# Altium footprint library px4_PCBLIB.PcbLib: 12 footprints
Each footprint in its own frame and in the unit in brackets; x right, y up, seen from the top. Pads: shape width x height; smd on the part's side, far side on the other; paste and mask are expansions set on the pad; w line width, h text height; cw(c..) or ccw(c..) is an arc to the next point about the centre after c.
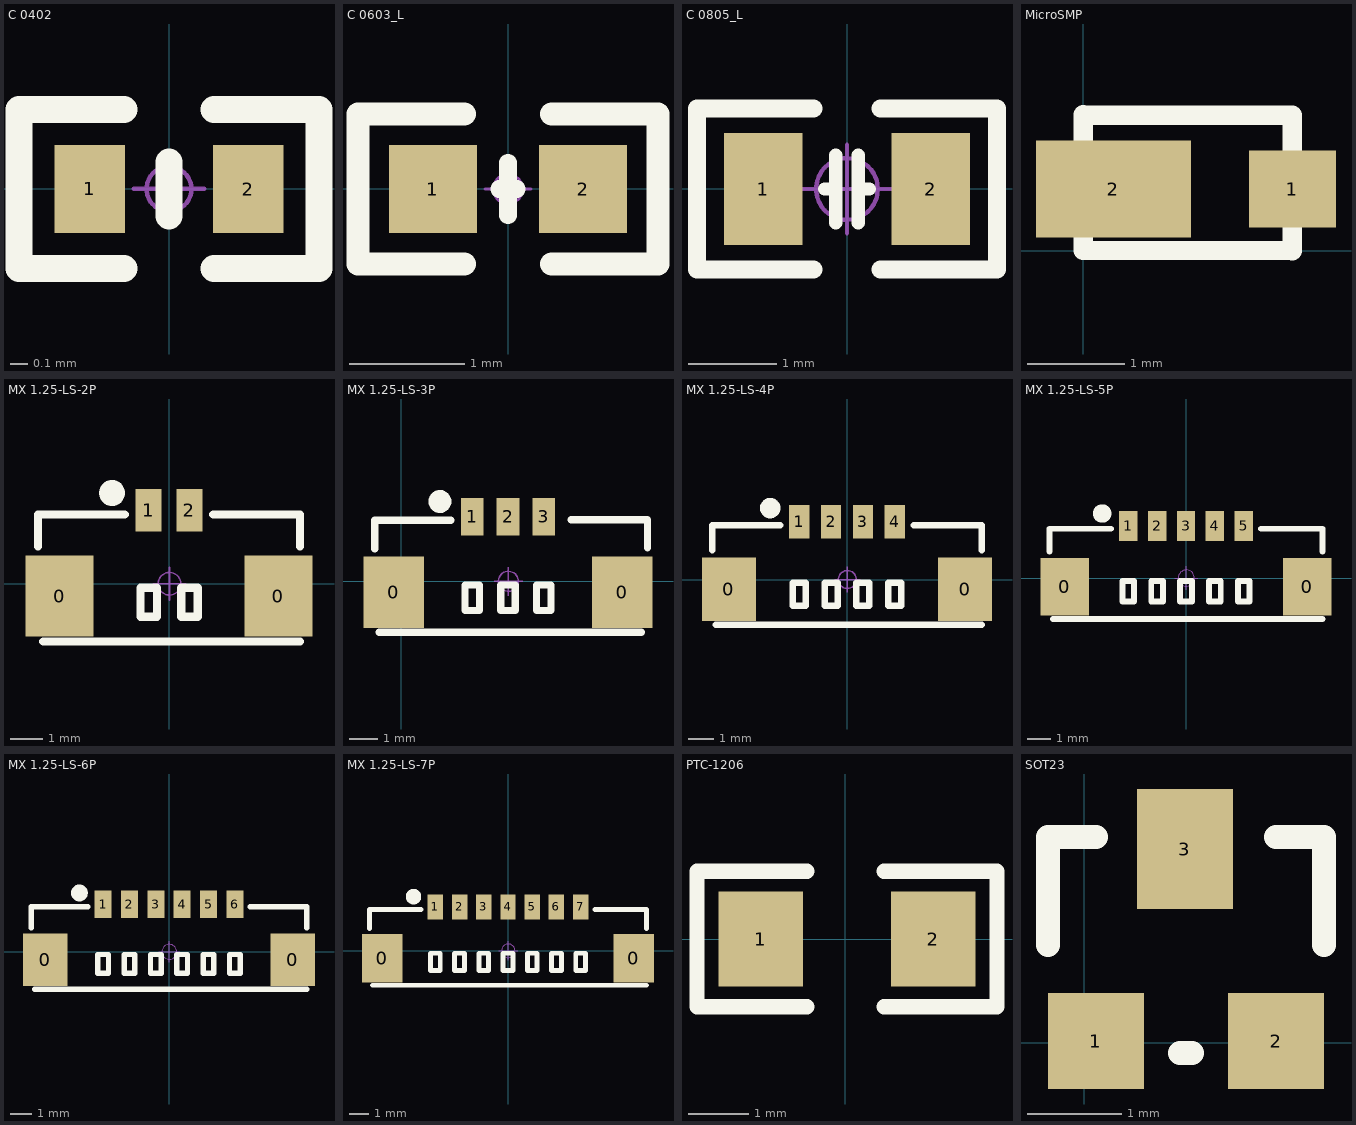
[diagram p0: the footprints below, top view; thin cyan lines are the x and y axes]

## C 0402 [mm] "无极性贴片电容"
height 0.5
pads (2):
  rect 0.4x0.5 smd: 1(-0.45,0) 2(0.45,0)
Top Overlay:
  lines w0.152: -0.254,-0.45 -0.85,-0.45 ; -0.254,0.45 -0.85,0.45 -0.85,-0.45 ; 0,-0.152 0,0.152 ; 0.254,-0.45 0.85,-0.45 0.85,0.45 0.254,0.45 ; -0.85,-0.45 -0.85,-0.45
Mechanical 15:
  circle w0.025: c0,0 r0.127
  lines w0.025: -0.2,0 0.2,0 ; 0,-0.2 0,0.2
3D body "C 0402.STEP": height 0.53, standoff 0.01, extent -0.5,-0.26 0.5,0.26

## C 0603_L [mil] "无极性贴片电容"
height 19.68
pads (2):
  rect 30x30 smd: 1(-25.59,0) 2(25.59,0)
Top Overlay:
  lines w6: -3,0 0,0 3,0 ; 0,-9 0,9
  lines w8: -15,-25.59 -51.18,-25.59 -51.18,25.59 -15,25.59 ; 15,-25.59 51.18,-25.59 51.18,25.59 15,25.59
Mechanical 15:
  circle w1: c0,0 r5
  lines w1: -7.87,0 7.87,0 ; 0,-7.87 0,7.87
3D body "C 0603.STEP": height 31.89, standoff -0.39, extent -31.5,-16.14 31.5,16.14

## C 0805_L [mil] "无极性贴片电容"
height 19.68
pads (2):
  rect 35x50 smd: 1(-37.4,0) 2(37.4,0)
Top Overlay:
  lines w6: -10,0 -5,0 ; -5,-15 -5,15 ; 5,-15 5,15 ; 5,0 10,0
  lines w8: -15,-36 -66.93,-36 -66.93,36 -15,36 ; 15,-36 66.93,-36 66.93,36 15,36
Mechanical 15:
  circle w1.97: c0,0 r13.78
  circle w1.97: c0,0 r13.78
  lines w1.97: -19.68,0 19.68,0 -19.68,0 ; 0,-19.68 0,19.68 0,-19.68
3D body "C 0805.STEP": height 20.08, standoff -0.39, extent -39.37,-24.02 39.37,24.02

## MicroSMP [mm]
height 0.73
pads (2):
  rect 0.9x0.8 smd: 1(2.159,0.635)
  rect 1.6x1 smd: 2(0.312,0.635)
Top Overlay:
  lines w0.2: 0,1.4 0,0 2.1,0 ; 0.059,1.397 2.159,1.397 2.159,-0.003
3D body "MicroSMP-1.STEP": height 0.71, standoff 0.03, extent -0.181,0.009 2.319,1.309

## MX 1.25-LS-2P [mm] "长：7.25m，宽：3.7mm，高：4.7mm"
pads (4):
  rect 2.1x2.5 smd: 0(-3.382,-0.381) 0(3.354,-0.381)
  rect 0.8x1.3 smd: 1(-0.639,2.261) 2(0.611,2.261)
Top Overlay:
  circle w0.4: c-1.767,2.794 r0.2
  lines w0.254: -4.045,1.143 -4.045,2.134 -1.378,2.134 ; -3.887,-1.778 4.02,-1.778 ; 1.35,2.134 4.017,2.134 4.017,1.143 ; -0.89,-1.016 -0.89,-0.127 -0.382,-0.127 -0.382,-1.016 -0.89,-1.016 ; 0.36,-1.016 0.868,-1.016 0.868,-0.127 0.36,-0.127 0.36,-1.016
Mechanical 15:
  circle w0.05: c0,0 r0.35
  lines w0.05: -0.5,0 0.5,0 ; 0,-0.5 0,0.5
3D body "MOLEX1.25-LS-2P.STEP": height 4.7, standoff 0, extent -3.825,-1.6 3.825,2.5

## MX 1.25-LS-3P [mm] "长：8.5m，宽：3.7mm，高：4.7mm"
pads (5):
  rect 2.1x2.5 smd: 0(-0.254,-0.381) 0(7.732,-0.381)
  rect 0.8x1.3 smd: 1(2.489,2.261) 2(3.739,2.261) 3(4.989,2.261)
Top Overlay:
  circle w0.4: c1.361,2.794 r0.2
  lines w0.254: -0.917,1.143 -0.917,2.134 1.75,2.134 ; -0.762,-1.778 8.395,-1.778 ; 5.946,2.159 8.613,2.159 8.613,1.168 ; 2.235,-1.016 2.743,-1.016 2.743,-0.127 2.235,-0.127 2.235,-1.016 ; 3.485,-1.016 3.485,-0.127 3.993,-0.127 3.993,-1.016 3.485,-1.016 ; 4.735,-1.016 4.735,-0.127 5.243,-0.127 5.243,-1.016 4.735,-1.016
Mechanical 15:
  circle w0.05: c3.753,0 r0.35
  lines w0.05: 3.253,0 4.253,0 ; 3.753,-0.5 3.753,0.5
3D body "MOLEX1.25-LS-3P.STEP": height 4.7, standoff 0, extent -0.697,-1.6 8.203,2.5

## MX 1.25-LS-4P [mm] "长：9.75m，宽：3.7mm，高：4.7mm"
pads (6):
  rect 2.1x2.5 smd: 0(-4.632,-0.381) 0(4.604,-0.381)
  rect 0.8x1.3 smd: 1(-1.889,2.261) 2(-0.639,2.261) 3(0.611,2.261) 4(1.861,2.261)
Top Overlay:
  circle w0.4: c-3.017,2.794 r0.2
  lines w0.254: -5.295,1.143 -5.295,2.134 -2.628,2.134 ; -5.14,-1.778 5.267,-1.778 ; 2.6,2.134 5.267,2.134 5.267,1.143 ; -2.143,-1.016 -2.143,-0.127 -1.635,-0.127 -1.635,-1.016 -2.143,-1.016 ; -0.893,-1.016 -0.385,-1.016 -0.385,-0.127 -0.893,-0.127 -0.893,-1.016 ; 0.357,-1.016 0.865,-1.016 0.865,-0.127 0.357,-0.127 0.357,-1.016 ; 1.607,-1.016 2.115,-1.016 2.115,-0.127 1.607,-0.127 1.607,-1.016
Mechanical 15:
  circle w0.05: c0,0 r0.35
  lines w0.05: -0.5,0 0.5,0 ; 0,-0.5 0,0.5
3D body "MOLEX1.25-LS-4P.STEP": height 4.7, standoff 0, extent -5.075,-1.6 5.075,2.5

## MX 1.25-LS-5P [mm] "长：11m，宽：3.7mm，高：4.7mm"
pads (7):
  rect 2.1x2.5 smd: 0(-5.257,-0.381) 0(5.229,-0.381)
  rect 0.8x1.3 smd: 1(-2.514,2.261) 2(-1.264,2.261) 3(-0.014,2.261) 4(1.236,2.261) 5(2.486,2.261)
Top Overlay:
  circle w0.4: c-3.642,2.794 r0.2
  lines w0.254: -5.92,1.143 -5.92,2.134 -3.253,2.134 ; -5.765,-1.778 5.892,-1.778 ; 3.225,2.134 5.892,2.134 5.892,1.143 ; -2.768,-1.016 -2.768,-0.127 -2.26,-0.127 -2.26,-1.016 -2.768,-1.016 ; -1.518,-1.016 -1.01,-1.016 -1.01,-0.127 -1.518,-0.127 -1.518,-1.016 ; -0.268,-1.016 0.24,-1.016 0.24,-0.127 -0.268,-0.127 -0.268,-1.016 ; 0.982,-1.016 1.49,-1.016 1.49,-0.127 0.982,-0.127 0.982,-1.016 ; 2.232,-1.016 2.74,-1.016 2.74,-0.127 2.232,-0.127 2.232,-1.016
Mechanical 15:
  circle w0.05: c0,0 r0.35
  lines w0.05: -0.5,0 0.5,0 ; 0,-0.5 0,0.5
3D body "MOLEX1.25-LS-5P.STEP": height 4.7, standoff 0, extent -5.7,-1.6 5.7,2.5

## MX 1.25-LS-6P [mm] "长：12.25m，宽：3.7mm，高：4.7mm"
pads (8):
  rect 2.1x2.5 smd: 0(-5.882,-0.381) 0(5.854,-0.381)
  rect 0.8x1.3 smd: 1(-3.139,2.261) 2(-1.889,2.261) 3(-0.639,2.261) 4(0.611,2.261) 5(1.861,2.261) 6(3.111,2.261)
Top Overlay:
  circle w0.4: c-4.267,2.794 r0.2
  lines w0.254: -6.545,1.143 -6.545,2.134 -3.878,2.134 ; -6.39,-1.778 6.517,-1.778 ; 3.85,2.134 6.517,2.134 6.517,1.143 ; -3.393,-1.016 -3.393,-0.127 -2.885,-0.127 -2.885,-1.016 -3.393,-1.016 ; -2.143,-1.016 -1.635,-1.016 -1.635,-0.127 -2.143,-0.127 -2.143,-1.016 ; -0.893,-1.016 -0.385,-1.016 -0.385,-0.127 -0.893,-0.127 -0.893,-1.016 ; 0.357,-1.016 0.865,-1.016 0.865,-0.127 0.357,-0.127 0.357,-1.016 ; 1.607,-1.016 2.115,-1.016 2.115,-0.127 1.607,-0.127 1.607,-1.016 ; 2.857,-1.016 3.365,-1.016 3.365,-0.127 2.857,-0.127 2.857,-1.016
Mechanical 15:
  circle w0.05: c0,0 r0.35
  lines w0.05: -0.5,0 0.5,0 ; 0,-0.5 0,0.5
3D body "MOLEX1.25-LS-6P.STEP": height 4.7, standoff 0, extent -6.325,-1.6 6.325,2.5

## MX 1.25-LS-7P [mm] "长：13.5m，宽：3.7mm，高：4.7mm"
pads (9):
  rect 2.1x2.5 smd: 0(-6.507,-0.381) 0(6.479,-0.381)
  rect 0.8x1.3 smd: 1(-3.764,2.261) 2(-2.514,2.261) 3(-1.264,2.261) 4(-0.014,2.261) 5(1.236,2.261) 6(2.486,2.261) 7(3.736,2.261)
Top Overlay:
  circle w0.4: c-4.892,2.794 r0.2
  lines w0.254: -7.17,1.143 -7.17,2.134 -4.503,2.134 ; -7.015,-1.778 7.142,-1.778 ; 4.475,2.134 7.142,2.134 7.142,1.143 ; -4.018,-1.016 -3.51,-1.016 -3.51,-0.127 -4.018,-0.127 -4.018,-1.016 ; -2.768,-1.016 -2.768,-0.127 -2.26,-0.127 -2.26,-1.016 -2.768,-1.016 ; -1.518,-1.016 -1.518,-0.127 -1.01,-0.127 -1.01,-1.016 -1.518,-1.016 ; -0.268,-1.016 -0.268,-0.127 0.24,-0.127 0.24,-1.016 -0.268,-1.016 ; 0.982,-1.016 0.982,-0.127 1.49,-0.127 1.49,-1.016 0.982,-1.016 ; 2.232,-1.016 2.232,-0.127 2.74,-0.127 2.74,-1.016 2.232,-1.016 ; 3.482,-1.016 3.482,-0.127 3.99,-0.127 3.99,-1.016 3.482,-1.016
Mechanical 15:
  circle w0.05: c0,0 r0.35
  lines w0.05: -0.5,0 0.5,0 ; 0,-0.5 0,0.5
3D body "MOLEX1.25-LS-7P.STEP": height 4.7, standoff 0, extent -6.95,-1.6 6.95,2.5

## PTC-1206 [mil]
height 29.53
pads (2):
  rect 55x62 smd: 1(-55.12,0) 2(57.09,0)
Top Overlay:
  lines w10: -25,-44 -96.46,-44 -96.46,44 -25,44 ; 25,-44 96.46,-44 ; 25,44 96.46,44 ; 98.43,-44 98.43,44
3D body "SMD075F.STEP": height 22.09, standoff -0.04, extent -63.03,-31.52 63.03,33.52

## SOT23 [mil]
pads (3):
  rect 40x40 smd: 1(4.88,0.63) 2(79.88,0.63)
  rect 40x50 smd: 3(41.88,80.63)
Top Overlay:
  lines w10: -15.12,40.63 -15.12,85.63 4.88,85.63 ; 39.88,-4.37 44.88,-4.37 ; 79.88,85.63 99.88,85.63 99.88,40.63
3D body "SOT-23-3.STEP": height 47.24, standoff 0, extent -14.87,-11.02 99.3,99.22